# Altium footprint library IRF3205SPBF.PcbLib: 2 footprints
Each footprint in its own frame and in the unit in brackets; x right, y up, seen from the top. Pads: shape width x height; smd on the part's side, far side on the other; paste and mask are expansions set on the pad; w line width, h text height; cw(c..) or ccw(c..) is an arc to the next point about the centre after c.
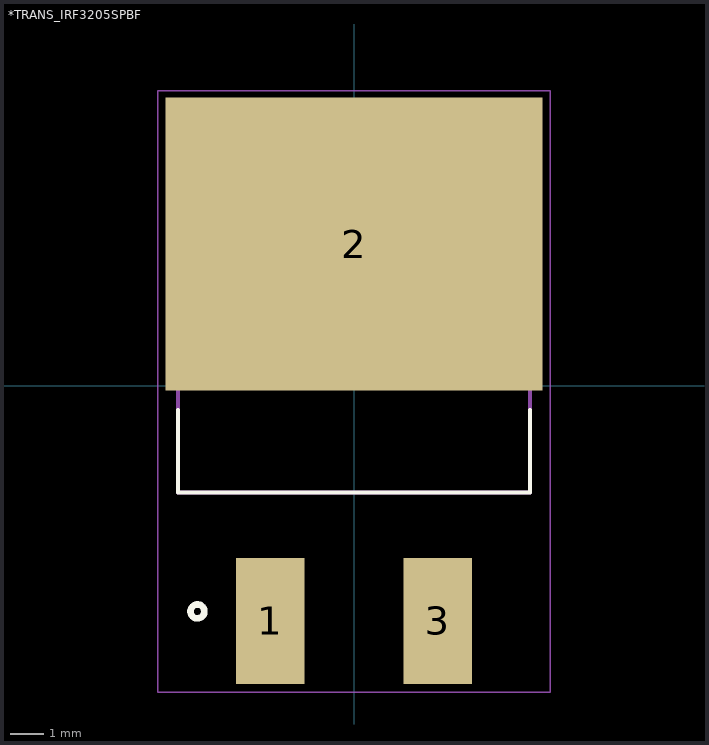
[diagram p0: the footprints below, top view; thin cyan lines are the x and y axes]

## *TRANS_IRF3205SPBF [mm]
pads (3):
  rect 2.08x3.81 smd: 1(-2.54,-7.14) 3(2.54,-7.14)
  rect 11.43x8.89 smd: 2(0,4.29)
Top Overlay:
  circle w0.2: c-4.75,-6.85 r0.212
  lines w0.127: -5.34,-0.74 -5.34,-3.24 5.34,-3.24 5.34,-0.74
Mechanical 4:
  lines w0.127: -5.34,-3.24 -5.34,6.42 ; -5.34,-3.24 5.34,-3.24 ; -5.34,-3.24 -5.34,6.42 ; -5.34,-3.24 5.34,-3.24 ; -5.34,6.42 5.34,6.42 ; -5.34,6.42 5.34,6.42 ; 5.34,-3.24 5.34,6.42 ; 5.34,-3.24 5.34,6.42
Mechanical 16:
  lines w0.05: -5.95,-9.3 -5.95,8.95 5.95,8.95 5.95,-9.3 -5.95,-9.3

## PCBComponent_1 [mil]